# Altium integrated library Renesas Microprocessor SuperH.IntLib: 433 symbols (part 18 of 62)
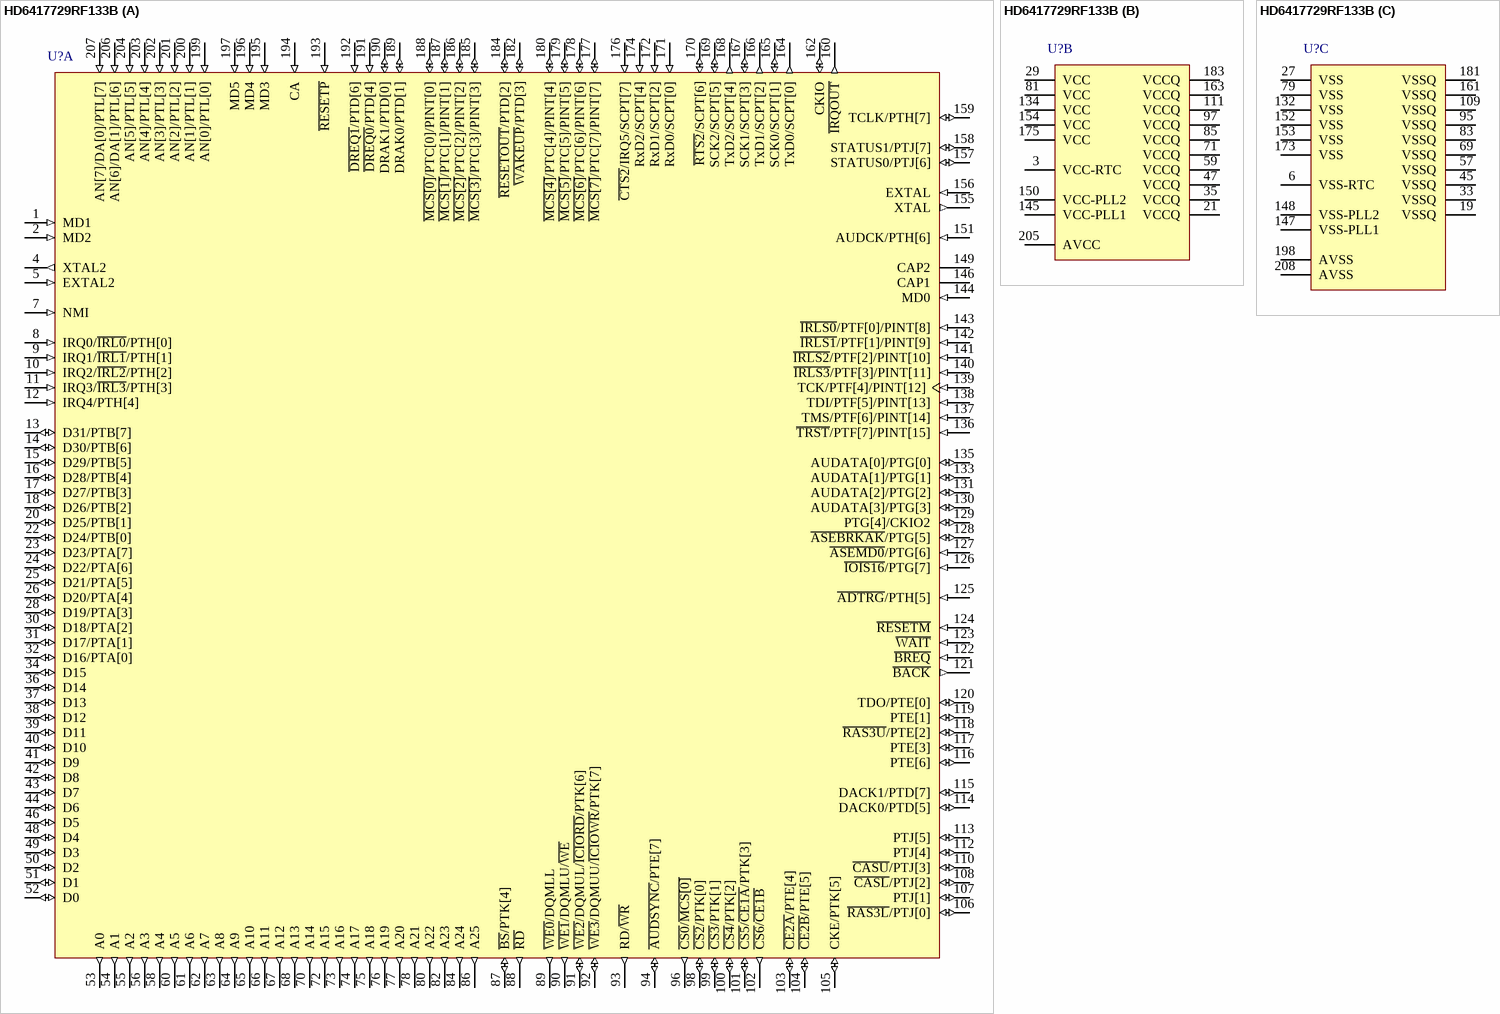
[diagram p292: symbol HD6417729RF133B]

## HD6417729RF133B
designator U?
32-Bit RISC Microcomputer, SH7700 Series, SH3-DSP core, 133MHz, 16K RAM, 208-pin LQFP, -20 to 75°C; Published: 28-Aug-2009; DatasheetVersion: Rev.5.00, Mar-2003; PackageVersion: Sep-2005; PackageReference: PLQP0208KA-A; Publisher: Altium Limited; PackageDescription: 208-Pin Plastic Low Profile QFP, 28 x 28 x 1.4 mm Body, 0.5 mm Pitch; Supplier 1: Digi-Key; Supplier Part Number 1: HD6417729RF133B-ND; Code_JEITA: P-LQFP208-28x28-0.50; ComponentLink1Description: Manufacturer Link; ComponentLink1URL: http://www.renesas.com/fmwk.jsp?cnt=sh7729r_root.jsp&fp=/products/mpumcu/superh_family/sh7700_series/sh7729r_group/; ComponentLink2Description: Datasheet; ComponentLink2URL: http://documentation.renesas.com/eng/products/mpumcu/rej09b0091_sh7729r.pdf; ComponentLink3Description: Packaging Specification; ComponentLink3URL: http://sg.renesas.com/media/products/common_info/package/pdf/ic/code/plqp0208ka_a.pdf
footprint PLQP0208KA-A_N (Shrink QFP, 208-Leads, Body 28x28mm, Pitch 0.5mm, IPC Medium Density)
footprint PLQP0208KA-A_L (Shrink QFP, 208-Leads, Body 28x28mm, Pitch 0.5mm, IPC High Density)
footprint PLQP0208KA-A_M (Shrink QFP, 208-Leads, Body 28x28mm, Pitch 0.5mm, IPC Low Density)
part A pins: 1 MD1 (in) "Clock mode setting", 2 MD2 (in) "Clock mode setting", 4 XTAL2 (out) "On-chip RTC crystal oscillator pin", 5 EXTAL2 (in) "On-chip RTC crystal oscillator pin", 7 NMI (in) "Nonmaskable interrupt request", 8 IRQ0/~{IRL0}/PTH[0] (in) "External interrupt request/input port H", 9 IRQ1/~{IRL1}/PTH[1] (in) "External interrupt request/input port H", 10 IRQ2/~{IRL2}/PTH[2] (in) "External interrupt request/input port H", 11 IRQ3/~{IRL3}/PTH[3] (in) "External interrupt request/input port H", 12 IRQ4/PTH[4] (in) "External interrupt request/input port H", 13 D31/PTB[7] (io) "Data bus/I/O port B", 14 D30/PTB[6] (io) "Data bus/I/O port B", 15 D29/PTB[5] (io) "Data bus/I/O port B", 16 D28/PTB[4] (io) "Data bus/I/O port B", 17 D27/PTB[3] (io) "Data bus/I/O port B", 18 D26/PTB[2] (io) "Data bus/I/O port B", 20 D25/PTB[1] (io) "Data bus/I/O port B", 22 D24/PTB[0] (io) "Data bus/I/O port B", 23 D23/PTA[7] (io) "Data bus/I/O port A", 24 D22/PTA[6] (io) "Data bus/I/O port A", 25 D21/PTA[5] (io) "Data bus/I/O port A", 26 D20/PTA[4] (io) "Data bus/I/O port A", 28 D19/PTA[3] (io) "Data bus/I/O port A", 30 D18/PTA[2] (io) "Data bus/I/O port A", 31 D17/PTA[1] (io) "Data bus/I/O port A", 32 D16/PTA[0] (io) "Data bus/I/O port A", 34 D15 (io) "Data bus", 36 D14 (io) "Data bus", 37 D13 (io) "Data bus", 38 D12 (io) "Data bus", 39 D11 (io) "Data bus", 40 D10 (io) "Data bus", 41 D9 (io) "Data bus", 42 D8 (io) "Data bus", 43 D7 (io) "Data bus", 44 D6 (io) "Data bus", 46 D5 (io) "Data bus", 48 D4 (io) "Data bus", 49 D3 (io) "Data bus", 50 D2 (io) "Data bus", 51 D1 (io) "Data bus", 52 D0 (io) "Data bus", 53 A0 (out) "Address bus", 54 A1 (out) "Address bus", 55 A2 (out) "Address bus", 56 A3 (out) "Address bus", 58 A4 (out) "Address bus", 60 A5 (out) "Address bus", 61 A6 (out) "Address bus", 62 A7 (out) "Address bus", 63 A8 (out) "Address bus", 64 A9 (out) "Address bus", 65 A10 (out) "Address bus", 66 A11 (out) "Address bus", 67 A12 (out) "Address bus", 68 A13 (out) "Address bus", 70 A14 (out) "Address bus", 72 A15 (out) "Address bus", 73 A16 (out) "Address bus", 74 A17 (out) "Address bus", 75 A18 (out) "Address bus", 76 A19 (out) "Address bus", 77 A20 (out) "Address bus", 78 A21 (out) "Address bus", 80 A22 (out) "Address bus", 82 A23 (out) "Address bus", 84 A24 (out) "Address bus", 86 A25 (out) "Address bus", 87 ~{BS}/PTK[4] (io) "Bus cycle start signal/I/O port K", 88 ~{RD} (out) "Read strobe", 89 ~{WE0}/DQMLL (out) "D7-D0 select signal/DQM (SDRAM)", 90 ~{WE1}/DQMLU/~{WE} (out) "D15-D8 select signal/DQM (SDRAM)", 91 ~{WE2}/DQMUL/~{ICIORD}/PTK[6] (io) "D23-D16 select signal/DQM (SDRAM)/PCMCIA I/O read/I/O port K", 92 ~{WE3}/DQMUU/~{ICIOWR}/PTK[7] (io) "D31-D24 select signal/DQM (SDRAM)/PCMCIA I/O write/I/O port K", 93 RD/~{WR} (out) "Read/write", 94 ~{AUDSYNC}/PTE[7] (io) "AUD synchronous/I/O port E", 96 ~{CS0}/~{MCS[0]} (out) "Chip select 0/mask ROM chip select 0", 98 ~{CS2}/PTK[0] (io) "Chip select 2/I/O port K", 99 ~{CS3}/PTK[1] (io) "Chip select 3/I/O port K", 100 ~{CS4}/PTK[2] (io) "Chip select 4/I/O port K", 101 ~{CS5}/~{CE1A}/PTK[3] (io) "Chip select 5/CE1 (area 5 PCMCIA)/I/O port K", 102 ~{CS6}/~{CE1B} (out) "Chip select 6/CE1 (area 6 PCMCIA)", 103 ~{CE2A}/PTE[4] (io) "CE2 (area5 PCMCIA)/I/O port E", 104 ~{CE2B}/PTE[5] (io) "CE2 (area6 PCMCIA)/I/O port E", 105 CKE/PTK[5] (io) "CK enable (SDRAM)/I/O port K", 106 ~{RAS3L}/PTJ[0] (io) "Lower 32/64 MB address (SDRAM) RAS/I/O port J", 107 PTJ[1] (io) "I/O port J", 108 ~{CASL}/PTJ[2] (io) "Lower 32/64 MB address (SDRAM) CAS/I/O port J", 110 ~{CASU}/PTJ[3] (io) "Upper 32 MB address (SDRAM) CAS/I/O port J", 112 PTJ[4] (io) "I/O port J", 113 PTJ[5] (io) "I/O port J", 114 DACK0/PTD[5] (io) "DMA acknowledge 0/I/O port D", 115 DACK1/PTD[7] (io) "DMA acknowledge 1/I/O port D", 116 PTE[6] (io) "I/O port E", 117 PTE[3] (io) "I/O port E", 118 ~{RAS3U}/PTE[2] (io) "Upper 32 MB address (SDRAM) RAS/I/O port E", 119 PTE[1] (io) "I/O port E", 120 TDO/PTE[0] (io) "Test data output/I/O port E", 121 ~{BACK} (out) "Bus acknowledge", 122 ~{BREQ} (in) "Bus request", 123 ~{WAIT} (in) "Hardware wait request", 124 ~{RESETM} (in) "Manual reset request", 125 ~{ADTRG}/PTH[5] (in) "Analog trigger/input port H", 126 ~{IOIS16}/PTG[7] (in) "IOIS6 (PCMCIA)/input port G", 127 ~{ASEMD0}/PTG[6] (in) "ASE mode/input port G", 128 ~{ASEBRKAK}/PTG[5] (io) "ASE break acknowledge/input port G", 129 PTG[4]/CKIO2 (io) "Input port G/clock output", 130 AUDATA[3]/PTG[3] (io) "AUD data/input port G", 131 AUDATA[2]/PTG[2] (io) "AUD data/input port G", 133 AUDATA[1]/PTG[1] (io) "AUD data/input port G", 135 AUDATA[0]/PTG[0] (io) "AUD data/input port G", 136 ~{TRST}/PTF[7]/PINT[15] (in) "Test reset/input port F/port interrupt", 137 TMS/PTF[6]/PINT[14] (in) "Test mode switch/input port F/port interrupt", 138 TDI/PTF[5]/PINT[13] (in) "Test data input/input port F/port interrupt", 139 TCK/PTF[4]/PINT[12] (in) "Test clock/input port F/port interrupt", 140 ~{IRLS3}/PTF[3]/PINT[11] (in) "External interrupt request/input port F/port interrupt", 141 ~{IRLS2}/PTF[2]/PINT[10] (in) "External interrupt request/input port F/port interrupt", 142 ~{IRLS1}/PTF[1]/PINT[9] (in) "External interrupt request/input port F/port interrupt", 143 ~{IRLS0}/PTF[0]/PINT[8] (in) "External interrupt request/input port F/port interrupt", 144 MD0 (in) "Clock mode setting", 146 CAP1 "PLL1 external capacitance pin", 149 CAP2 "PLL2 external capacitance pin", 151 AUDCK/PTH[6] (in) "AUD clock/input port H", 155 XTAL (out) "Clock oscillator pin", 156 EXTAL (in) "External clock/crystal oscillator pin", 157 STATUS0/PTJ[6] (io) "Processor status/I/O port J", 158 STATUS1/PTJ[7] (io) "Processor status/I/O port J", 159 TCLK/PTH[7] (io) "TMU or RTC clock input/output/I/O port H", 160 ~{IRQOUT} (out) "Interrupt request notification", 162 CKIO (io) "System clock input/output", 164 TxD0/SCPT[0] (out) "Transmit data 0/SCI output port", 165 SCK0/SCPT[1] (io) "Serial clock 0/SCI I/O port", 166 TxD1/SCPT[2] (out) "Transmit data 1/SCI output port", 167 SCK1/SCPT[3] (io) "Serial clock 1/SCI I/O port", 168 TxD2/SCPT[4] (out) "Transmit data 2/SCI output port", 169 SCK2/SCPT[5] (io) "Serial clock 2/SCI I/O port", 170 ~{RTS2}/SCPT[6] (io) "Transmit request 2/SCI I/O port", 171 RxD0/SCPT[0] (in) "Transmit data 0/SCI input port", 172 RxD1/SCPT[2] (in) "Transmit data 1/SCI input port", 174 RxD2/SCPT[4] (in) "Transmit data 2/SCI input port", 176 ~{CTS2}/IRQ5/SCPT[7] (in) "Transmit clear 2/external interrupt request/SCI input port", 177 ~{MCS[7]}/PTC[7]/PINT[7] (io) "Mask ROM chip select/I/O port C/port interrupt", 178 ~{MCS[6]}/PTC[6]/PINT[6] (io) "Mask ROM chip select/I/O port C/port interrupt", 179 ~{MCS[5]}/PTC[5]/PINT[5] (io) "Mask ROM chip select/I/O port C/port interrupt", 180 ~{MCS[4]}/PTC[4]/PINT[4] (io) "Mask ROM chip select/I/O port C/port interrupt", 182 ~{WAKEUP}/PTD[3] (io) "Standby mode interrupt request notification/I/O port D", 184 ~{RESETOUT}/PTD[2] (io) "Reset output/I/O port D", 185 ~{MCS[3]}/PTC[3]/PINT[3] (io) "Mask ROM chip select/I/O port C/port interrupt", 186 ~{MCS[2]}/PTC[2]/PINT[2] (io) "Mask ROM chip select/I/O port C/port interrupt", 187 ~{MCS[1]}/PTC[1]/PINT[1] (io) "Mask ROM chip select/I/O port C/port interrupt", 188 ~{MCS[0]}/PTC[0]/PINT[0] (io) "Mask ROM chip select/I/O port C/port interrupt", 189 DRAK0/PTD[1] (io) "DMA request acceptance/I/O port D", 190 DRAK1/PTD[0] (io) "DMA request acceptance/I/O port D", 191 ~{DREQ0}/PTD[4] (in) "DMA request/input port D", 192 ~{DREQ1}/PTD[6] (in) "DMA request/input port D", 193 ~{RESETP} (in) "Power-on reset request", 194 CA (in) "Chip activate (hardware standby request signal)", 195 MD3 (in) "Area 0 bus width setting", 196 MD4 (in) "Area 0 bus width setting", 197 MD5 (in) "Endian setting", 199 AN[0]/PTL[0] (in) "A/D converter input/input port L", 200 AN[1]/PTL[1] (in) "A/D converter input/input port L", 201 AN[2]/PTL[2] (in) "A/D converter input/input port L", 202 AN[3]/PTL[3] (in) "A/D converter input/input port L", 203 AN[4]/PTL[4] (in) "A/D converter input/input port L", 204 AN[5]/PTL[5] (in) "A/D converter input/input port L", 206 AN[6]/DA[1]/PTL[6] (in) "A/D converter input/input port L", 207 AN[7]/DA[0]/PTL[7] (in) "A/D converter input/input port L"
part B pins: 3 VCC-RTC (power) "RTC power supply V. Connect to power supply if not used.", 21 VCCQ (power) "Input/output power supply (3.3V)", 29 VCC (power) "Power supply", 35 VCCQ (power) "Input/output power supply (3.3V)", 47 VCCQ (power) "Input/output power supply (3.3V)", 59 VCCQ (power) "Input/output power supply (3.3V)", 71 VCCQ (power) "Input/output power supply (3.3V)", 81 VCC (power) "Power supply", 85 VCCQ (power) "Input/output power supply (3.3V)", 97 VCCQ (power) "Input/output power supply (3.3V)", 111 VCCQ (power) "Input/output power supply (3.3V)", 134 VCC (power) "Power supply", 145 VCC-PLL1 (power) "PLL1 power supply", 150 VCC-PLL2 (power) "PLL2 power supply", 154 VCC (power) "Power supply", 163 VCCQ (power) "Input/output power supply (3.3V)", 175 VCC (power) "Power supply", 183 VCCQ (power) "Input/output power supply (3.3V)", 205 AVCC (power) "Analog power supply (3.3V)"
part C pins: 6 VSS-RTC (power) "RTC power supply (0V). Connect to power supply if not used.", 19 VSSQ (power) "Input/output power supply (0V)", 27 VSS (power) "Power supply (0V)", 33 VSSQ (power) "Input/output power supply (0V)", 45 VSSQ (power) "Input/output power supply (0V)", 57 VSSQ (power) "Input/output power supply (0V)", 69 VSSQ (power) "Input/output power supply (0V)", 79 VSS (power) "Power supply (0V)", 83 VSSQ (power) "Input/output power supply (0V)", 95 VSSQ (power) "Input/output power supply (0V)", 109 VSSQ (power) "Input/output power supply (0V)", 132 VSS (power) "Power supply (0V)", 147 VSS-PLL1 (power) "PLL1 power supply (0V)", 148 VSS-PLL2 (power) "PLL2 power supply (0V)", 152 VSS (power) "Power supply (0V)", 153 VSS (power) "Power supply (0V)", 161 VSSQ (power) "Input/output power supply (0V)", 173 VSS (power) "Power supply (0V)", 181 VSSQ (power) "Input/output power supply (0V)", 198 AVSS (power) "Analog power supply (0V)", 208 AVSS (power) "Analog power supply (0V)"

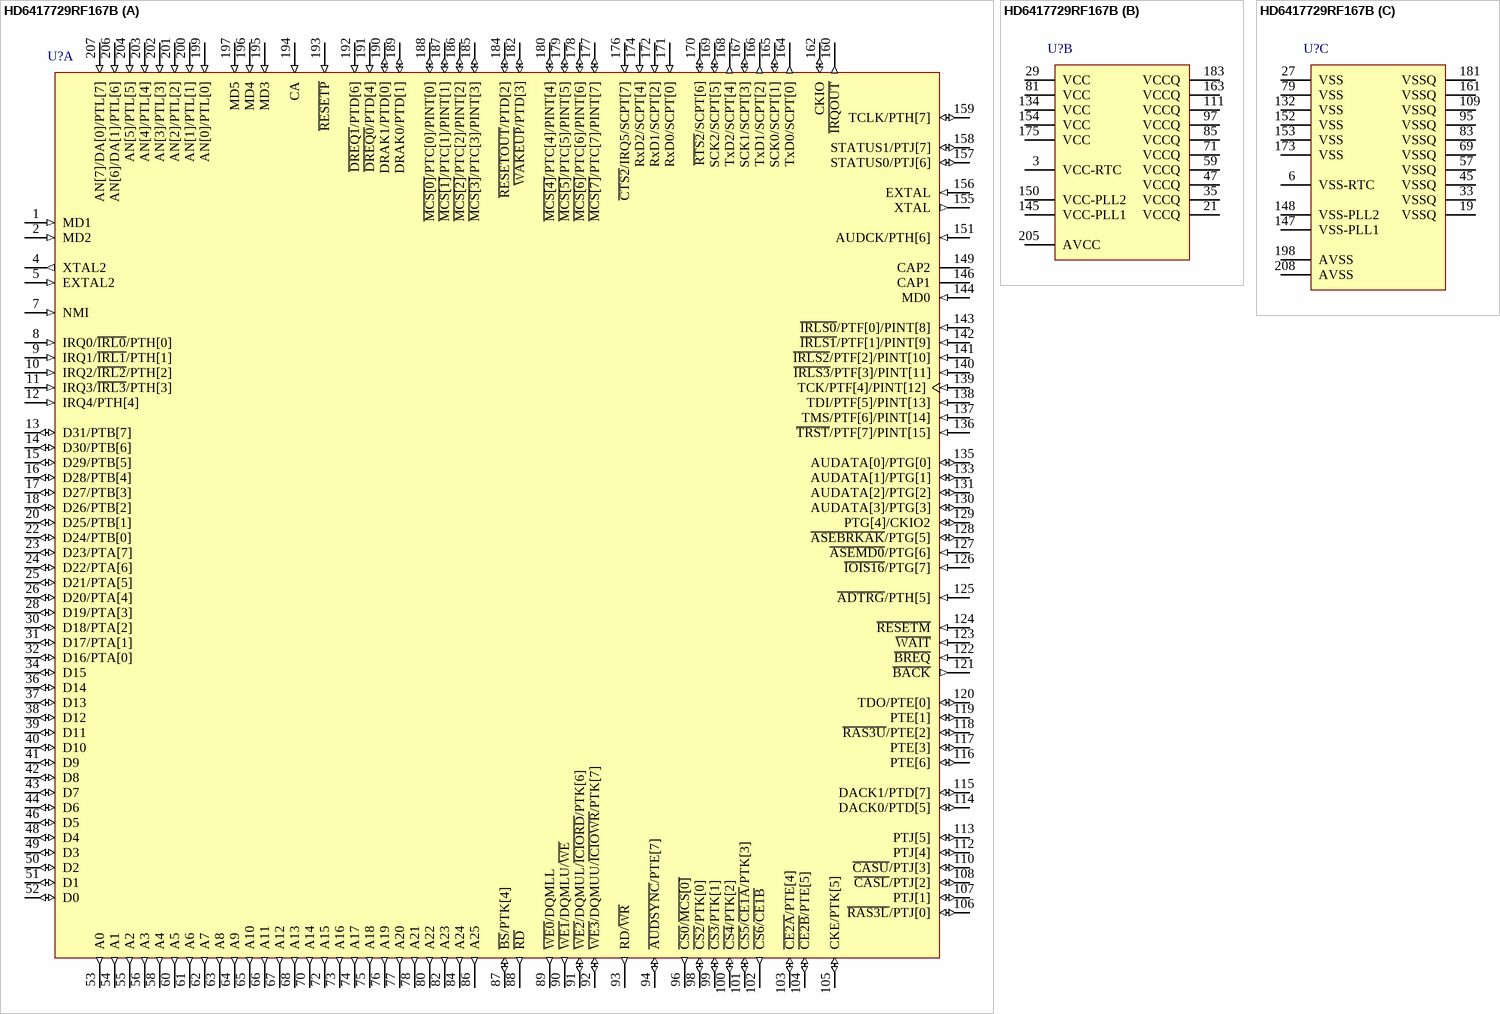
[diagram p62: symbol HD6417729RF167B]

## HD6417729RF167B
designator U?
32-Bit RISC Microcomputer, SH7700 Series, SH3-DSP core, 167MHz, 16K RAM, 208-pin LQFP, -20 to 75°C; Published: 28-Aug-2009; DatasheetVersion: Rev.5.00, Mar-2003; PackageVersion: Sep-2005; PackageReference: PLQP0208KA-A; Publisher: Altium Limited; PackageDescription: 208-Pin Plastic Low Profile QFP, 28 x 28 x 1.4 mm Body, 0.5 mm Pitch; Code_JEITA: P-LQFP208-28x28-0.50; ComponentLink1Description: Manufacturer Link; ComponentLink1URL: http://www.renesas.com/fmwk.jsp?cnt=sh7729r_root.jsp&fp=/products/mpumcu/superh_family/sh7700_series/sh7729r_group/; ComponentLink2Description: Datasheet; ComponentLink2URL: http://documentation.renesas.com/eng/products/mpumcu/rej09b0091_sh7729r.pdf; ComponentLink3Description: Packaging Specification; ComponentLink3URL: http://sg.renesas.com/media/products/common_info/package/pdf/ic/code/plqp0208ka_a.pdf
footprint PLQP0208KA-A_N (Shrink QFP, 208-Leads, Body 28x28mm, Pitch 0.5mm, IPC Medium Density)
footprint PLQP0208KA-A_L (Shrink QFP, 208-Leads, Body 28x28mm, Pitch 0.5mm, IPC High Density)
footprint PLQP0208KA-A_M (Shrink QFP, 208-Leads, Body 28x28mm, Pitch 0.5mm, IPC Low Density)
part A pins: 1 MD1 (in) "Clock mode setting", 2 MD2 (in) "Clock mode setting", 4 XTAL2 (out) "On-chip RTC crystal oscillator pin", 5 EXTAL2 (in) "On-chip RTC crystal oscillator pin", 7 NMI (in) "Nonmaskable interrupt request", 8 IRQ0/~{IRL0}/PTH[0] (in) "External interrupt request/input port H", 9 IRQ1/~{IRL1}/PTH[1] (in) "External interrupt request/input port H", 10 IRQ2/~{IRL2}/PTH[2] (in) "External interrupt request/input port H", 11 IRQ3/~{IRL3}/PTH[3] (in) "External interrupt request/input port H", 12 IRQ4/PTH[4] (in) "External interrupt request/input port H", 13 D31/PTB[7] (io) "Data bus/I/O port B", 14 D30/PTB[6] (io) "Data bus/I/O port B", 15 D29/PTB[5] (io) "Data bus/I/O port B", 16 D28/PTB[4] (io) "Data bus/I/O port B", 17 D27/PTB[3] (io) "Data bus/I/O port B", 18 D26/PTB[2] (io) "Data bus/I/O port B", 20 D25/PTB[1] (io) "Data bus/I/O port B", 22 D24/PTB[0] (io) "Data bus/I/O port B", 23 D23/PTA[7] (io) "Data bus/I/O port A", 24 D22/PTA[6] (io) "Data bus/I/O port A", 25 D21/PTA[5] (io) "Data bus/I/O port A", 26 D20/PTA[4] (io) "Data bus/I/O port A", 28 D19/PTA[3] (io) "Data bus/I/O port A", 30 D18/PTA[2] (io) "Data bus/I/O port A", 31 D17/PTA[1] (io) "Data bus/I/O port A", 32 D16/PTA[0] (io) "Data bus/I/O port A", 34 D15 (io) "Data bus", 36 D14 (io) "Data bus", 37 D13 (io) "Data bus", 38 D12 (io) "Data bus", 39 D11 (io) "Data bus", 40 D10 (io) "Data bus", 41 D9 (io) "Data bus", 42 D8 (io) "Data bus", 43 D7 (io) "Data bus", 44 D6 (io) "Data bus", 46 D5 (io) "Data bus", 48 D4 (io) "Data bus", 49 D3 (io) "Data bus", 50 D2 (io) "Data bus", 51 D1 (io) "Data bus", 52 D0 (io) "Data bus", 53 A0 (out) "Address bus", 54 A1 (out) "Address bus", 55 A2 (out) "Address bus", 56 A3 (out) "Address bus", 58 A4 (out) "Address bus", 60 A5 (out) "Address bus", 61 A6 (out) "Address bus", 62 A7 (out) "Address bus", 63 A8 (out) "Address bus", 64 A9 (out) "Address bus", 65 A10 (out) "Address bus", 66 A11 (out) "Address bus", 67 A12 (out) "Address bus", 68 A13 (out) "Address bus", 70 A14 (out) "Address bus", 72 A15 (out) "Address bus", 73 A16 (out) "Address bus", 74 A17 (out) "Address bus", 75 A18 (out) "Address bus", 76 A19 (out) "Address bus", 77 A20 (out) "Address bus", 78 A21 (out) "Address bus", 80 A22 (out) "Address bus", 82 A23 (out) "Address bus", 84 A24 (out) "Address bus", 86 A25 (out) "Address bus", 87 ~{BS}/PTK[4] (io) "Bus cycle start signal/I/O port K", 88 ~{RD} (out) "Read strobe", 89 ~{WE0}/DQMLL (out) "D7-D0 select signal/DQM (SDRAM)", 90 ~{WE1}/DQMLU/~{WE} (out) "D15-D8 select signal/DQM (SDRAM)", 91 ~{WE2}/DQMUL/~{ICIORD}/PTK[6] (io) "D23-D16 select signal/DQM (SDRAM)/PCMCIA I/O read/I/O port K", 92 ~{WE3}/DQMUU/~{ICIOWR}/PTK[7] (io) "D31-D24 select signal/DQM (SDRAM)/PCMCIA I/O write/I/O port K", 93 RD/~{WR} (out) "Read/write", 94 ~{AUDSYNC}/PTE[7] (io) "AUD synchronous/I/O port E", 96 ~{CS0}/~{MCS[0]} (out) "Chip select 0/mask ROM chip select 0", 98 ~{CS2}/PTK[0] (io) "Chip select 2/I/O port K", 99 ~{CS3}/PTK[1] (io) "Chip select 3/I/O port K", 100 ~{CS4}/PTK[2] (io) "Chip select 4/I/O port K", 101 ~{CS5}/~{CE1A}/PTK[3] (io) "Chip select 5/CE1 (area 5 PCMCIA)/I/O port K", 102 ~{CS6}/~{CE1B} (out) "Chip select 6/CE1 (area 6 PCMCIA)", 103 ~{CE2A}/PTE[4] (io) "CE2 (area5 PCMCIA)/I/O port E", 104 ~{CE2B}/PTE[5] (io) "CE2 (area6 PCMCIA)/I/O port E", 105 CKE/PTK[5] (io) "CK enable (SDRAM)/I/O port K", 106 ~{RAS3L}/PTJ[0] (io) "Lower 32/64 MB address (SDRAM) RAS/I/O port J", 107 PTJ[1] (io) "I/O port J", 108 ~{CASL}/PTJ[2] (io) "Lower 32/64 MB address (SDRAM) CAS/I/O port J", 110 ~{CASU}/PTJ[3] (io) "Upper 32 MB address (SDRAM) CAS/I/O port J", 112 PTJ[4] (io) "I/O port J", 113 PTJ[5] (io) "I/O port J", 114 DACK0/PTD[5] (io) "DMA acknowledge 0/I/O port D", 115 DACK1/PTD[7] (io) "DMA acknowledge 1/I/O port D", 116 PTE[6] (io) "I/O port E", 117 PTE[3] (io) "I/O port E", 118 ~{RAS3U}/PTE[2] (io) "Upper 32 MB address (SDRAM) RAS/I/O port E", 119 PTE[1] (io) "I/O port E", 120 TDO/PTE[0] (io) "Test data output/I/O port E", 121 ~{BACK} (out) "Bus acknowledge", 122 ~{BREQ} (in) "Bus request", 123 ~{WAIT} (in) "Hardware wait request", 124 ~{RESETM} (in) "Manual reset request", 125 ~{ADTRG}/PTH[5] (in) "Analog trigger/input port H", 126 ~{IOIS16}/PTG[7] (in) "IOIS6 (PCMCIA)/input port G", 127 ~{ASEMD0}/PTG[6] (in) "ASE mode/input port G", 128 ~{ASEBRKAK}/PTG[5] (io) "ASE break acknowledge/input port G", 129 PTG[4]/CKIO2 (io) "Input port G/clock output", 130 AUDATA[3]/PTG[3] (io) "AUD data/input port G", 131 AUDATA[2]/PTG[2] (io) "AUD data/input port G", 133 AUDATA[1]/PTG[1] (io) "AUD data/input port G", 135 AUDATA[0]/PTG[0] (io) "AUD data/input port G", 136 ~{TRST}/PTF[7]/PINT[15] (in) "Test reset/input port F/port interrupt", 137 TMS/PTF[6]/PINT[14] (in) "Test mode switch/input port F/port interrupt", 138 TDI/PTF[5]/PINT[13] (in) "Test data input/input port F/port interrupt", 139 TCK/PTF[4]/PINT[12] (in) "Test clock/input port F/port interrupt", 140 ~{IRLS3}/PTF[3]/PINT[11] (in) "External interrupt request/input port F/port interrupt", 141 ~{IRLS2}/PTF[2]/PINT[10] (in) "External interrupt request/input port F/port interrupt", 142 ~{IRLS1}/PTF[1]/PINT[9] (in) "External interrupt request/input port F/port interrupt", 143 ~{IRLS0}/PTF[0]/PINT[8] (in) "External interrupt request/input port F/port interrupt", 144 MD0 (in) "Clock mode setting", 146 CAP1 "PLL1 external capacitance pin", 149 CAP2 "PLL2 external capacitance pin", 151 AUDCK/PTH[6] (in) "AUD clock/input port H", 155 XTAL (out) "Clock oscillator pin", 156 EXTAL (in) "External clock/crystal oscillator pin", 157 STATUS0/PTJ[6] (io) "Processor status/I/O port J", 158 STATUS1/PTJ[7] (io) "Processor status/I/O port J", 159 TCLK/PTH[7] (io) "TMU or RTC clock input/output/I/O port H", 160 ~{IRQOUT} (out) "Interrupt request notification", 162 CKIO (io) "System clock input/output", 164 TxD0/SCPT[0] (out) "Transmit data 0/SCI output port", 165 SCK0/SCPT[1] (io) "Serial clock 0/SCI I/O port", 166 TxD1/SCPT[2] (out) "Transmit data 1/SCI output port", 167 SCK1/SCPT[3] (io) "Serial clock 1/SCI I/O port", 168 TxD2/SCPT[4] (out) "Transmit data 2/SCI output port", 169 SCK2/SCPT[5] (io) "Serial clock 2/SCI I/O port", 170 ~{RTS2}/SCPT[6] (io) "Transmit request 2/SCI I/O port", 171 RxD0/SCPT[0] (in) "Transmit data 0/SCI input port", 172 RxD1/SCPT[2] (in) "Transmit data 1/SCI input port", 174 RxD2/SCPT[4] (in) "Transmit data 2/SCI input port", 176 ~{CTS2}/IRQ5/SCPT[7] (in) "Transmit clear 2/external interrupt request/SCI input port", 177 ~{MCS[7]}/PTC[7]/PINT[7] (io) "Mask ROM chip select/I/O port C/port interrupt", 178 ~{MCS[6]}/PTC[6]/PINT[6] (io) "Mask ROM chip select/I/O port C/port interrupt", 179 ~{MCS[5]}/PTC[5]/PINT[5] (io) "Mask ROM chip select/I/O port C/port interrupt", 180 ~{MCS[4]}/PTC[4]/PINT[4] (io) "Mask ROM chip select/I/O port C/port interrupt", 182 ~{WAKEUP}/PTD[3] (io) "Standby mode interrupt request notification/I/O port D", 184 ~{RESETOUT}/PTD[2] (io) "Reset output/I/O port D", 185 ~{MCS[3]}/PTC[3]/PINT[3] (io) "Mask ROM chip select/I/O port C/port interrupt", 186 ~{MCS[2]}/PTC[2]/PINT[2] (io) "Mask ROM chip select/I/O port C/port interrupt", 187 ~{MCS[1]}/PTC[1]/PINT[1] (io) "Mask ROM chip select/I/O port C/port interrupt", 188 ~{MCS[0]}/PTC[0]/PINT[0] (io) "Mask ROM chip select/I/O port C/port interrupt", 189 DRAK0/PTD[1] (io) "DMA request acceptance/I/O port D", 190 DRAK1/PTD[0] (io) "DMA request acceptance/I/O port D", 191 ~{DREQ0}/PTD[4] (in) "DMA request/input port D", 192 ~{DREQ1}/PTD[6] (in) "DMA request/input port D", 193 ~{RESETP} (in) "Power-on reset request", 194 CA (in) "Chip activate (hardware standby request signal)", 195 MD3 (in) "Area 0 bus width setting", 196 MD4 (in) "Area 0 bus width setting", 197 MD5 (in) "Endian setting", 199 AN[0]/PTL[0] (in) "A/D converter input/input port L", 200 AN[1]/PTL[1] (in) "A/D converter input/input port L", 201 AN[2]/PTL[2] (in) "A/D converter input/input port L", 202 AN[3]/PTL[3] (in) "A/D converter input/input port L", 203 AN[4]/PTL[4] (in) "A/D converter input/input port L", 204 AN[5]/PTL[5] (in) "A/D converter input/input port L", 206 AN[6]/DA[1]/PTL[6] (in) "A/D converter input/input port L", 207 AN[7]/DA[0]/PTL[7] (in) "A/D converter input/input port L"
part B pins: 3 VCC-RTC (power) "RTC power supply V. Connect to power supply if not used.", 21 VCCQ (power) "Input/output power supply (3.3V)", 29 VCC (power) "Power supply", 35 VCCQ (power) "Input/output power supply (3.3V)", 47 VCCQ (power) "Input/output power supply (3.3V)", 59 VCCQ (power) "Input/output power supply (3.3V)", 71 VCCQ (power) "Input/output power supply (3.3V)", 81 VCC (power) "Power supply", 85 VCCQ (power) "Input/output power supply (3.3V)", 97 VCCQ (power) "Input/output power supply (3.3V)", 111 VCCQ (power) "Input/output power supply (3.3V)", 134 VCC (power) "Power supply", 145 VCC-PLL1 (power) "PLL1 power supply", 150 VCC-PLL2 (power) "PLL2 power supply", 154 VCC (power) "Power supply", 163 VCCQ (power) "Input/output power supply (3.3V)", 175 VCC (power) "Power supply", 183 VCCQ (power) "Input/output power supply (3.3V)", 205 AVCC (power) "Analog power supply (3.3V)"
part C pins: 6 VSS-RTC (power) "RTC power supply (0V). Connect to power supply if not used.", 19 VSSQ (power) "Input/output power supply (0V)", 27 VSS (power) "Power supply (0V)", 33 VSSQ (power) "Input/output power supply (0V)", 45 VSSQ (power) "Input/output power supply (0V)", 57 VSSQ (power) "Input/output power supply (0V)", 69 VSSQ (power) "Input/output power supply (0V)", 79 VSS (power) "Power supply (0V)", 83 VSSQ (power) "Input/output power supply (0V)", 95 VSSQ (power) "Input/output power supply (0V)", 109 VSSQ (power) "Input/output power supply (0V)", 132 VSS (power) "Power supply (0V)", 147 VSS-PLL1 (power) "PLL1 power supply (0V)", 148 VSS-PLL2 (power) "PLL2 power supply (0V)", 152 VSS (power) "Power supply (0V)", 153 VSS (power) "Power supply (0V)", 161 VSSQ (power) "Input/output power supply (0V)", 173 VSS (power) "Power supply (0V)", 181 VSSQ (power) "Input/output power supply (0V)", 198 AVSS (power) "Analog power supply (0V)", 208 AVSS (power) "Analog power supply (0V)"

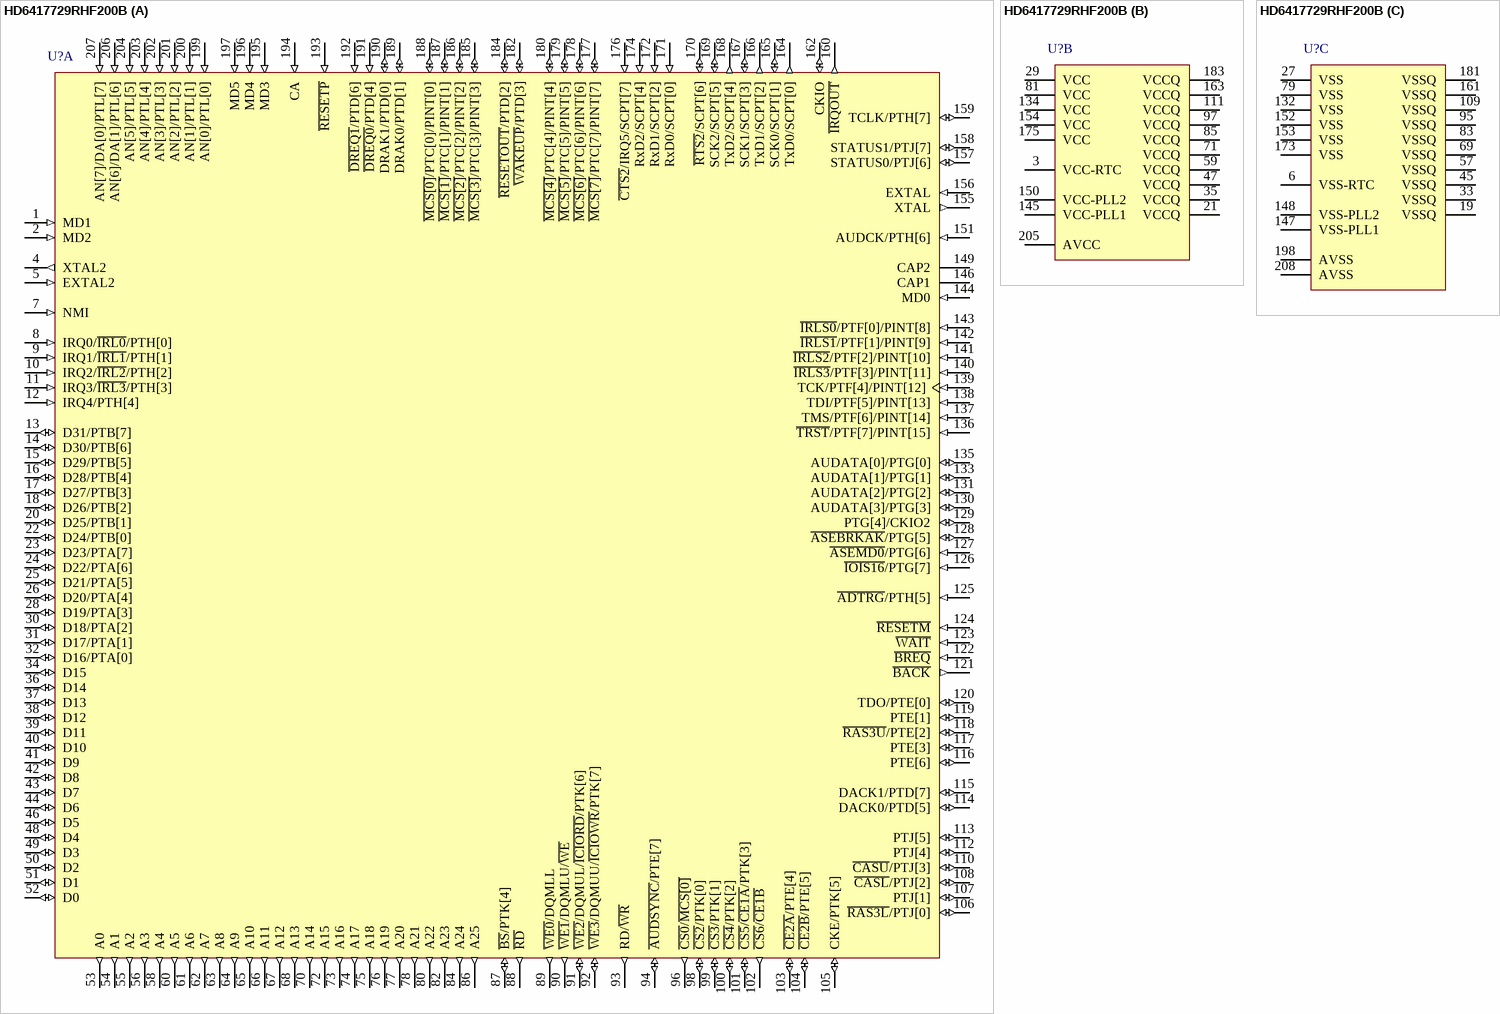
[diagram p63: symbol HD6417729RHF200B]

## HD6417729RHF200B
designator U?
32-Bit RISC Microcomputer, SH7700 Series, SH3-DSP core, 200MHz, 16K RAM, 208-pin HQFP, -20 to 75°C; Published: 28-Aug-2009; DatasheetVersion: Rev.5.00, Mar-2003; PackageVersion: Sep-2005; PackageReference: PRQP0208KE-B; Publisher: Altium Limited; PackageDescription: 208-Pin Plastic Quad Flat Pack, 28 x 28 x 3.2 mm Body, 0.5 mm Pitch; Supplier 1: Digi-Key; Supplier Part Number 1: HD6417729RHF200B-ND; Code_JEITA: P-HQFP208-28x28-0.50; ComponentLink1Description: Manufacturer Link; ComponentLink1URL: http://www.renesas.com/fmwk.jsp?cnt=sh7729r_root.jsp&fp=/products/mpumcu/superh_family/sh7700_series/sh7729r_group/; ComponentLink2Description: Datasheet; ComponentLink2URL: http://documentation.renesas.com/eng/products/mpumcu/rej09b0091_sh7729r.pdf; ComponentLink3Description: Packaging Specification; ComponentLink3URL: http://sg.renesas.com/media/products/common_info/package/pdf/ic/code/prqp0208ke_b.pdf
footprint PRQP0208KE-B_N (Shrink QFP, 208-Leads, Body 28x28mm, Pitch 0.5mm, IPC Medium Density)
footprint PRQP0208KE-B_L (Shrink QFP, 208-Leads, Body 28x28mm, Pitch 0.5mm, IPC High Density)
footprint PRQP0208KE-B_M (Shrink QFP, 208-Leads, Body 28x28mm, Pitch 0.5mm, IPC Low Density)
part A pins: 1 MD1 (in) "Clock mode setting", 2 MD2 (in) "Clock mode setting", 4 XTAL2 (out) "On-chip RTC crystal oscillator pin", 5 EXTAL2 (in) "On-chip RTC crystal oscillator pin", 7 NMI (in) "Nonmaskable interrupt request", 8 IRQ0/~{IRL0}/PTH[0] (in) "External interrupt request/input port H", 9 IRQ1/~{IRL1}/PTH[1] (in) "External interrupt request/input port H", 10 IRQ2/~{IRL2}/PTH[2] (in) "External interrupt request/input port H", 11 IRQ3/~{IRL3}/PTH[3] (in) "External interrupt request/input port H", 12 IRQ4/PTH[4] (in) "External interrupt request/input port H", 13 D31/PTB[7] (io) "Data bus/I/O port B", 14 D30/PTB[6] (io) "Data bus/I/O port B", 15 D29/PTB[5] (io) "Data bus/I/O port B", 16 D28/PTB[4] (io) "Data bus/I/O port B", 17 D27/PTB[3] (io) "Data bus/I/O port B", 18 D26/PTB[2] (io) "Data bus/I/O port B", 20 D25/PTB[1] (io) "Data bus/I/O port B", 22 D24/PTB[0] (io) "Data bus/I/O port B", 23 D23/PTA[7] (io) "Data bus/I/O port A", 24 D22/PTA[6] (io) "Data bus/I/O port A", 25 D21/PTA[5] (io) "Data bus/I/O port A", 26 D20/PTA[4] (io) "Data bus/I/O port A", 28 D19/PTA[3] (io) "Data bus/I/O port A", 30 D18/PTA[2] (io) "Data bus/I/O port A", 31 D17/PTA[1] (io) "Data bus/I/O port A", 32 D16/PTA[0] (io) "Data bus/I/O port A", 34 D15 (io) "Data bus", 36 D14 (io) "Data bus", 37 D13 (io) "Data bus", 38 D12 (io) "Data bus", 39 D11 (io) "Data bus", 40 D10 (io) "Data bus", 41 D9 (io) "Data bus", 42 D8 (io) "Data bus", 43 D7 (io) "Data bus", 44 D6 (io) "Data bus", 46 D5 (io) "Data bus", 48 D4 (io) "Data bus", 49 D3 (io) "Data bus", 50 D2 (io) "Data bus", 51 D1 (io) "Data bus", 52 D0 (io) "Data bus", 53 A0 (out) "Address bus", 54 A1 (out) "Address bus", 55 A2 (out) "Address bus", 56 A3 (out) "Address bus", 58 A4 (out) "Address bus", 60 A5 (out) "Address bus", 61 A6 (out) "Address bus", 62 A7 (out) "Address bus", 63 A8 (out) "Address bus", 64 A9 (out) "Address bus", 65 A10 (out) "Address bus", 66 A11 (out) "Address bus", 67 A12 (out) "Address bus", 68 A13 (out) "Address bus", 70 A14 (out) "Address bus", 72 A15 (out) "Address bus", 73 A16 (out) "Address bus", 74 A17 (out) "Address bus", 75 A18 (out) "Address bus", 76 A19 (out) "Address bus", 77 A20 (out) "Address bus", 78 A21 (out) "Address bus", 80 A22 (out) "Address bus", 82 A23 (out) "Address bus", 84 A24 (out) "Address bus", 86 A25 (out) "Address bus", 87 ~{BS}/PTK[4] (io) "Bus cycle start signal/I/O port K", 88 ~{RD} (out) "Read strobe", 89 ~{WE0}/DQMLL (out) "D7-D0 select signal/DQM (SDRAM)", 90 ~{WE1}/DQMLU/~{WE} (out) "D15-D8 select signal/DQM (SDRAM)", 91 ~{WE2}/DQMUL/~{ICIORD}/PTK[6] (io) "D23-D16 select signal/DQM (SDRAM)/PCMCIA I/O read/I/O port K", 92 ~{WE3}/DQMUU/~{ICIOWR}/PTK[7] (io) "D31-D24 select signal/DQM (SDRAM)/PCMCIA I/O write/I/O port K", 93 RD/~{WR} (out) "Read/write", 94 ~{AUDSYNC}/PTE[7] (io) "AUD synchronous/I/O port E", 96 ~{CS0}/~{MCS[0]} (out) "Chip select 0/mask ROM chip select 0", 98 ~{CS2}/PTK[0] (io) "Chip select 2/I/O port K", 99 ~{CS3}/PTK[1] (io) "Chip select 3/I/O port K", 100 ~{CS4}/PTK[2] (io) "Chip select 4/I/O port K", 101 ~{CS5}/~{CE1A}/PTK[3] (io) "Chip select 5/CE1 (area 5 PCMCIA)/I/O port K", 102 ~{CS6}/~{CE1B} (out) "Chip select 6/CE1 (area 6 PCMCIA)", 103 ~{CE2A}/PTE[4] (io) "CE2 (area5 PCMCIA)/I/O port E", 104 ~{CE2B}/PTE[5] (io) "CE2 (area6 PCMCIA)/I/O port E", 105 CKE/PTK[5] (io) "CK enable (SDRAM)/I/O port K", 106 ~{RAS3L}/PTJ[0] (io) "Lower 32/64 MB address (SDRAM) RAS/I/O port J", 107 PTJ[1] (io) "I/O port J", 108 ~{CASL}/PTJ[2] (io) "Lower 32/64 MB address (SDRAM) CAS/I/O port J", 110 ~{CASU}/PTJ[3] (io) "Upper 32 MB address (SDRAM) CAS/I/O port J", 112 PTJ[4] (io) "I/O port J", 113 PTJ[5] (io) "I/O port J", 114 DACK0/PTD[5] (io) "DMA acknowledge 0/I/O port D", 115 DACK1/PTD[7] (io) "DMA acknowledge 1/I/O port D", 116 PTE[6] (io) "I/O port E", 117 PTE[3] (io) "I/O port E", 118 ~{RAS3U}/PTE[2] (io) "Upper 32 MB address (SDRAM) RAS/I/O port E", 119 PTE[1] (io) "I/O port E", 120 TDO/PTE[0] (io) "Test data output/I/O port E", 121 ~{BACK} (out) "Bus acknowledge", 122 ~{BREQ} (in) "Bus request", 123 ~{WAIT} (in) "Hardware wait request", 124 ~{RESETM} (in) "Manual reset request", 125 ~{ADTRG}/PTH[5] (in) "Analog trigger/input port H", 126 ~{IOIS16}/PTG[7] (in) "IOIS6 (PCMCIA)/input port G", 127 ~{ASEMD0}/PTG[6] (in) "ASE mode/input port G", 128 ~{ASEBRKAK}/PTG[5] (io) "ASE break acknowledge/input port G", 129 PTG[4]/CKIO2 (io) "Input port G/clock output", 130 AUDATA[3]/PTG[3] (io) "AUD data/input port G", 131 AUDATA[2]/PTG[2] (io) "AUD data/input port G", 133 AUDATA[1]/PTG[1] (io) "AUD data/input port G", 135 AUDATA[0]/PTG[0] (io) "AUD data/input port G", 136 ~{TRST}/PTF[7]/PINT[15] (in) "Test reset/input port F/port interrupt", 137 TMS/PTF[6]/PINT[14] (in) "Test mode switch/input port F/port interrupt", 138 TDI/PTF[5]/PINT[13] (in) "Test data input/input port F/port interrupt", 139 TCK/PTF[4]/PINT[12] (in) "Test clock/input port F/port interrupt", 140 ~{IRLS3}/PTF[3]/PINT[11] (in) "External interrupt request/input port F/port interrupt", 141 ~{IRLS2}/PTF[2]/PINT[10] (in) "External interrupt request/input port F/port interrupt", 142 ~{IRLS1}/PTF[1]/PINT[9] (in) "External interrupt request/input port F/port interrupt", 143 ~{IRLS0}/PTF[0]/PINT[8] (in) "External interrupt request/input port F/port interrupt", 144 MD0 (in) "Clock mode setting", 146 CAP1 "PLL1 external capacitance pin", 149 CAP2 "PLL2 external capacitance pin", 151 AUDCK/PTH[6] (in) "AUD clock/input port H", 155 XTAL (out) "Clock oscillator pin", 156 EXTAL (in) "External clock/crystal oscillator pin", 157 STATUS0/PTJ[6] (io) "Processor status/I/O port J", 158 STATUS1/PTJ[7] (io) "Processor status/I/O port J", 159 TCLK/PTH[7] (io) "TMU or RTC clock input/output/I/O port H", 160 ~{IRQOUT} (out) "Interrupt request notification", 162 CKIO (io) "System clock input/output", 164 TxD0/SCPT[0] (out) "Transmit data 0/SCI output port", 165 SCK0/SCPT[1] (io) "Serial clock 0/SCI I/O port", 166 TxD1/SCPT[2] (out) "Transmit data 1/SCI output port", 167 SCK1/SCPT[3] (io) "Serial clock 1/SCI I/O port", 168 TxD2/SCPT[4] (out) "Transmit data 2/SCI output port", 169 SCK2/SCPT[5] (io) "Serial clock 2/SCI I/O port", 170 ~{RTS2}/SCPT[6] (io) "Transmit request 2/SCI I/O port", 171 RxD0/SCPT[0] (in) "Transmit data 0/SCI input port", 172 RxD1/SCPT[2] (in) "Transmit data 1/SCI input port", 174 RxD2/SCPT[4] (in) "Transmit data 2/SCI input port", 176 ~{CTS2}/IRQ5/SCPT[7] (in) "Transmit clear 2/external interrupt request/SCI input port", 177 ~{MCS[7]}/PTC[7]/PINT[7] (io) "Mask ROM chip select/I/O port C/port interrupt", 178 ~{MCS[6]}/PTC[6]/PINT[6] (io) "Mask ROM chip select/I/O port C/port interrupt", 179 ~{MCS[5]}/PTC[5]/PINT[5] (io) "Mask ROM chip select/I/O port C/port interrupt", 180 ~{MCS[4]}/PTC[4]/PINT[4] (io) "Mask ROM chip select/I/O port C/port interrupt", 182 ~{WAKEUP}/PTD[3] (io) "Standby mode interrupt request notification/I/O port D", 184 ~{RESETOUT}/PTD[2] (io) "Reset output/I/O port D", 185 ~{MCS[3]}/PTC[3]/PINT[3] (io) "Mask ROM chip select/I/O port C/port interrupt", 186 ~{MCS[2]}/PTC[2]/PINT[2] (io) "Mask ROM chip select/I/O port C/port interrupt", 187 ~{MCS[1]}/PTC[1]/PINT[1] (io) "Mask ROM chip select/I/O port C/port interrupt", 188 ~{MCS[0]}/PTC[0]/PINT[0] (io) "Mask ROM chip select/I/O port C/port interrupt", 189 DRAK0/PTD[1] (io) "DMA request acceptance/I/O port D", 190 DRAK1/PTD[0] (io) "DMA request acceptance/I/O port D", 191 ~{DREQ0}/PTD[4] (in) "DMA request/input port D", 192 ~{DREQ1}/PTD[6] (in) "DMA request/input port D", 193 ~{RESETP} (in) "Power-on reset request", 194 CA (in) "Chip activate (hardware standby request signal)", 195 MD3 (in) "Area 0 bus width setting", 196 MD4 (in) "Area 0 bus width setting", 197 MD5 (in) "Endian setting", 199 AN[0]/PTL[0] (in) "A/D converter input/input port L", 200 AN[1]/PTL[1] (in) "A/D converter input/input port L", 201 AN[2]/PTL[2] (in) "A/D converter input/input port L", 202 AN[3]/PTL[3] (in) "A/D converter input/input port L", 203 AN[4]/PTL[4] (in) "A/D converter input/input port L", 204 AN[5]/PTL[5] (in) "A/D converter input/input port L", 206 AN[6]/DA[1]/PTL[6] (in) "A/D converter input/input port L", 207 AN[7]/DA[0]/PTL[7] (in) "A/D converter input/input port L"
part B pins: 3 VCC-RTC (power) "RTC power supply V. Connect to power supply if not used.", 21 VCCQ (power) "Input/output power supply (3.3V)", 29 VCC (power) "Power supply", 35 VCCQ (power) "Input/output power supply (3.3V)", 47 VCCQ (power) "Input/output power supply (3.3V)", 59 VCCQ (power) "Input/output power supply (3.3V)", 71 VCCQ (power) "Input/output power supply (3.3V)", 81 VCC (power) "Power supply", 85 VCCQ (power) "Input/output power supply (3.3V)", 97 VCCQ (power) "Input/output power supply (3.3V)", 111 VCCQ (power) "Input/output power supply (3.3V)", 134 VCC (power) "Power supply", 145 VCC-PLL1 (power) "PLL1 power supply", 150 VCC-PLL2 (power) "PLL2 power supply", 154 VCC (power) "Power supply", 163 VCCQ (power) "Input/output power supply (3.3V)", 175 VCC (power) "Power supply", 183 VCCQ (power) "Input/output power supply (3.3V)", 205 AVCC (power) "Analog power supply (3.3V)"
part C pins: 6 VSS-RTC (power) "RTC power supply (0V). Connect to power supply if not used.", 19 VSSQ (power) "Input/output power supply (0V)", 27 VSS (power) "Power supply (0V)", 33 VSSQ (power) "Input/output power supply (0V)", 45 VSSQ (power) "Input/output power supply (0V)", 57 VSSQ (power) "Input/output power supply (0V)", 69 VSSQ (power) "Input/output power supply (0V)", 79 VSS (power) "Power supply (0V)", 83 VSSQ (power) "Input/output power supply (0V)", 95 VSSQ (power) "Input/output power supply (0V)", 109 VSSQ (power) "Input/output power supply (0V)", 132 VSS (power) "Power supply (0V)", 147 VSS-PLL1 (power) "PLL1 power supply (0V)", 148 VSS-PLL2 (power) "PLL2 power supply (0V)", 152 VSS (power) "Power supply (0V)", 153 VSS (power) "Power supply (0V)", 161 VSSQ (power) "Input/output power supply (0V)", 173 VSS (power) "Power supply (0V)", 181 VSSQ (power) "Input/output power supply (0V)", 198 AVSS (power) "Analog power supply (0V)", 208 AVSS (power) "Analog power supply (0V)"

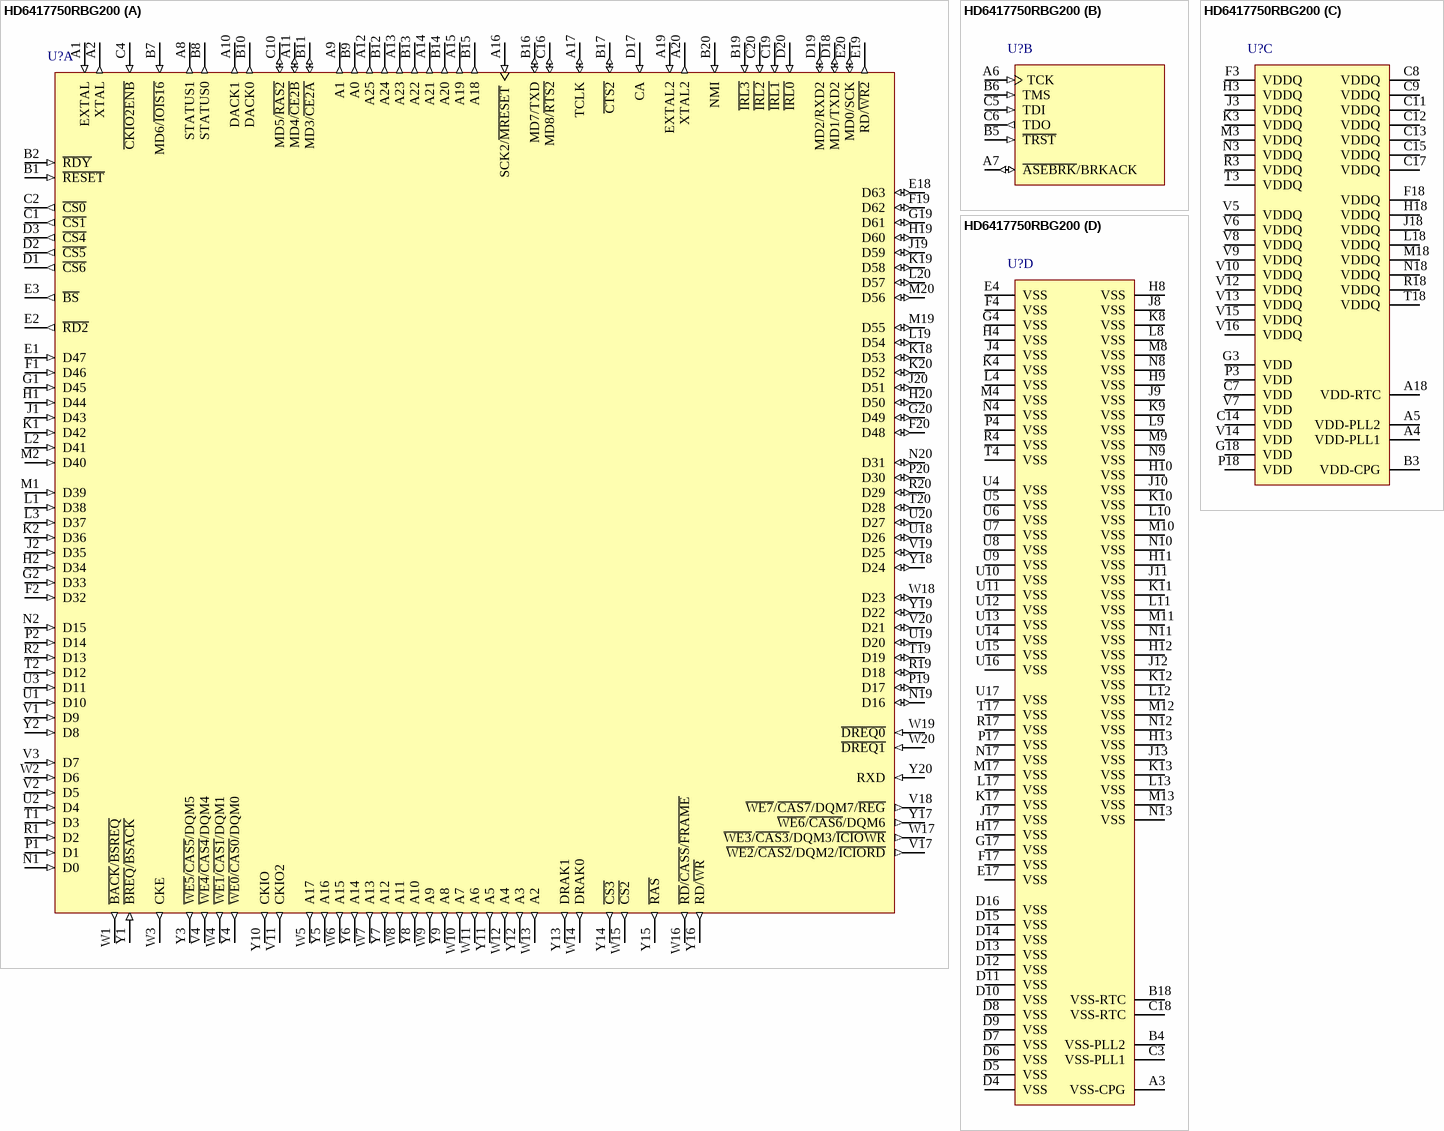
[diagram p64: symbol HD6417750RBG200]

## HD6417750RBG200
designator U?
32-Bit RISC Microcomputer, SH7750 Series, SH-4 core, 1.5V 200MHz, 292-pin BGA, -20 to 75°C; Published: 28-Aug-2009; DatasheetVersion: Rev.7.00, Oct-2008; PackageVersion: Oct-2006; PackageReference: PRBG0292GA-A; Publisher: Altium Limited; PackageDescription: 292-Ball Plastic Fine Pitch Ball Grid Array, 17 x 17 mm Body, 0.8 mm Pitch; Code_JEITA: P-FBGA292-17x17-0.80; ComponentLink1Description: Manufacturer Link; ComponentLink1URL: http://www.renesas.com/fmwk.jsp?cnt=sh7750r_root.jsp&fp=/products/mpumcu/superh_family/sh7750_series/sh7750r_group/; ComponentLink2Description: Datasheet; ComponentLink2URL: http://documentation.renesas.com/eng/products/mpumcu/rej09b0366_7750hm.pdf; ComponentLink3Description: Packaging Specification; ComponentLink3URL: http://sg.renesas.com/media/products/common_info/package/pdf/ic/code/prbg0292ga_a.pdf
footprint PRBG0292GA-A (BGA, 292-Leads, Body 17x17mm, Pitch 0.8mm)
part A pins: A1 EXTAL (in) "External clock/crystal resonator", A2 XTAL (out) "Crystal resonator", A8 STATUS1 (out) "Status", A9 A1 (out) "Address", A10 DACK1 (out) "DMAC1 acknowledge", A11 MD4/~{CE2B} (io) "Mode/PCMCIA-CE", A12 A25 (out) "Address", A13 A23 (out) "Address", A14 A21 (out) "Address", A15 A19 (out) "Address", A16 SCK2/~{MRESET} (in) "SCIF clock/manual reset", A17 TCLK (io) "RTC/TMU clock", A19 EXTAL2 (in) "RTC crystal resonator pin", A20 XTAL2 (out) "RTC crystal resonator pin", B1 ~{RESET} (in) "Reset", B2 ~{RDY} (in) "Bus ready", B7 MD6/~{IOIS16} (in) "Mode/IOIS16 (PCMCIA)", B8 STATUS0 (out) "Status", B9 A0 (out) "Address", B10 DACK0 (out) "DMAC0 bus acknowledge", B11 MD3/~{CE2A} (io) "Mode/PCMCIA-CE", B12 A24 (out) "Address", B13 A22 (out) "Address", B14 A20 (out) "Address", B15 A18 (out) "Address", B16 MD7/TXD (io) "Mode/SCI1 data output", B17 ~{CTS2} (io) "SCIF data control (CTS)", B19 ~{IRL3} (in) "Interrupt 3", B20 NMI (in) "Nonmaskable interrupt", C1 ~{CS1} (out) "Chip select 1", C2 ~{CS0} (out) "Chip select 0", C4 ~{CKIO2ENB} (in) "CKIO2, RD2, RD/WR2enable", C10 MD5/~{RAS2} (io) "Mode/RAS (DRAM)", C16 MD8/~{RTS2} (io) "Mode/SCIF data control (RTS)", C19 ~{IRL1} (in) "Interrupt 1", C20 ~{IRL2} (in) "Interrupt 2", D1 ~{CS6} (out) "Chip select 6", D2 ~{CS5} (out) "Chip select 5", D3 ~{CS4} (out) "Chip select 4", D17 CA (in) "Hardware standby", D18 MD1/TXD2 (io) "Mode/SCIF data output", D19 MD2/RXD2 (io) "Mode/SCIF data input", D20 ~{IRL0} (in) "Interrupt 0", E1 D47 (in) "Data/port", E2 ~{RD2} (out) "RD/CASS/FRAME", E3 ~{BS} (out) "Bus start", E18 D63 (io) "Data", E19 RD/~{WR2} (out) "RD/WR", E20 MD0/SCK (io) "Mode/SCI Clock", F1 D46 (in) "Data/port", F2 D32 (in) "Data/port", F19 D62 (io) "Data", F20 D48 (io) "Data/port", G1 D45 (in) "Data/port", G2 D33 (in) "Data/port", G19 D61 (io) "Data", G20 D49 (io) "Data/port", H1 D44 (in) "Data/port", H2 D34 (in) "Data/port", H19 D60 (io) "Data", H20 D50 (io) "Data/port", J1 D43 (in) "Data/port", J2 D35 (in) "Data/port", J19 D59 (io) "Data", J20 D51 (io) "Data/port", K1 D42 (in) "Data/port", K2 D36 (in) "Data/port", K18 D53 (io) "Data", K19 D58 (io) "Data", K20 D52 (io) "Data", L1 D38 (in) "Data/port", L2 D41 (in) "Data/port", L3 D37 (in) "Data/port", L19 D54 (io) "Data", L20 D57 (io) "Data", M1 D39 (in) "Data/port", M2 D40 (in) "Data/port", M19 D55 (io) "Data", M20 D56 (io) "Data", N1 D0 (in) "Data", N2 D15 (in) "Data", N19 D16 (io) "Data", N20 D31 (io) "Data", P1 D1 (in) "Data", P2 D14 (in) "Data", P19 D17 (io) "Data", P20 D30 (io) "Data", R1 D2 (in) "Data", R2 D13 (in) "Data", R19 D18 (io) "Data", R20 D29 (io) "Data", T1 D3 (in) "Data", T2 D12 (in) "Data", T19 D19 (io) "Data", T20 D28 (io) "Data", U1 D10 (in) "Data", U2 D4 (in) "Data", U3 D11 (in) "Data", U18 D26 (io) "Data", U19 D20 (io) "Data", U20 D27 (io) "Data", V1 D9 (in) "Data", V2 D5 (in) "Data", V3 D7 (in) "Data", V4 ~{WE4}/~{CAS4}/DQM4 (out) "D39-D32 select signal", V11 CKIO2 (out) "CKIO", V17 ~{WE2}/~{CAS2}/DQM2/~{ICIORD} (out) "D23-D16 select signal", V18 ~{WE7}/~{CAS7}/DQM7/~{REG} (out) "D63-D56 select signal", V19 D25 (io) "Data", V20 D21 (io) "Data", W1 ~{BACK}/~{BSREQ} (out) "Bus acknowledge/bus request", W2 D6 (in) "Data", W3 CKE (out) "Clock output enable", W4 ~{WE1}/~{CAS1}/DQM1 (out) "D15-D8 select signal", W5 A17 (out) "Address", W6 A15 (out) "Address", W7 A13 (out) "Address", W8 A11 (out) "Address", W9 A9 (out) "Address", W10 A7 (out) "Address", W11 A6 (out) "Address", W12 A4 (out) "Address", W13 A2 (out) "Address", W14 DRAK0 (out) "DMAC0 request acknowledge", W15 ~{CS2} (out) "Chip select 2", W16 ~{RD}/~{CASS}/~{FRAME} (out) "Read/CAS/FRAME", W17 ~{WE3}/~{CAS3}/DQM3/~{ICIOWR} (out) "D31-D24 select signal", W18 D23 (io) "Data", W19 ~{DREQ0} (in) "Request from DMAC0", W20 ~{DREQ1} (in) "Request from DMAC1", Y1 ~{BREQ}/~{BSACK} (in) "Bus request/bus acknowledge", Y2 D8 (in) "Data", Y3 ~{WE5}/~{CAS5}/DQM5 (out) "D47-D40 select signal", Y4 ~{WE0}/~{CAS0}/DQM0 (out) "D7-D0 select signal", Y5 A16 (out) "Address", Y6 A14 (out) "Address", Y7 A12 (out) "Address", Y8 A10 (out) "Address", Y9 A8 (out) "Address", Y10 CKIO (out) "Clock output", Y11 A5 (out) "Address", Y12 A3 (out) "Address", Y13 DRAK1 (out) "DMAC1 request acknowledge", Y14 ~{CS3} (out) "Chip select 3", Y15 ~{RAS} (out) "RAS", Y16 RD/~{WR} (out) "Read/write", Y17 ~{WE6}/~{CAS6}/DQM6 (out) "D55-D48 select signal", Y18 D24 (io) "Data", Y19 D22 (io) "Data", Y20 RXD (in) "SCI data input"
part B pins: A6 TCK (in) "Clock (H-UDI)", A7 ~{ASEBRK}/BRKACK (io) "Pin break/acknowledge (H-UDI)", B5 ~{TRST} (in) "Reset (H-UDI)", B6 TMS (in) "Mode (H-UDI)", C5 TDI (in) "Data in (H-UDI)", C6 TDO (out) "Data out (H-UDI)"
part C pins: A4 VDD-PLL1 (power) "PLL1 VDD (3.3V)", A5 VDD-PLL2 (power) "PLL2 VDD (3.3V)", A18 VDD-RTC (power) "RTC VDD (3.3V)", B3 VDD-CPG (power) "CPG VDD (3.3V)", C7 VDD (power) "Internal VDD", C8 VDDQ (power) "IO VDD (3.3V)", C9 VDDQ (power) "IO VDD (3.3V)", C11 VDDQ (power) "IO VDD (3.3V)", C12 VDDQ (power) "IO VDD (3.3V)", C13 VDDQ (power) "IO VDD (3.3V)", C14 VDD (power) "Internal VDD", C15 VDDQ (power) "IO VDD (3.3V)", C17 VDDQ (power) "IO VDD (3.3V)", F3 VDDQ (power) "IO VDD (3.3V)", F18 VDDQ (power) "IO VDD (3.3V)", G3 VDD (power) "Internal VDD", G18 VDD (power) "Internal VDD", H3 VDDQ (power) "IO VDD (3.3V)", H18 VDDQ (power) "IO VDD (3.3V)", J3 VDDQ (power) "IO VDD (3.3V)", J18 VDDQ (power) "IO VDD (3.3V)", K3 VDDQ (power) "IO VDD (3.3V)", L18 VDDQ (power) "IO VDD (3.3V)", M3 VDDQ (power) "IO VDD (3.3V)", M18 VDDQ (power) "IO VDD (3.3V)", N3 VDDQ (power) "IO VDD (3.3V)", N18 VDDQ (power) "IO VDD (3.3V)", P3 VDD (power) "Internal VDD", P18 VDD (power) "Internal VDD", R3 VDDQ (power) "IO VDD (3.3V)", R18 VDDQ (power) "IO VDD (3.3V)", T3 VDDQ (power) "IO VDD (3.3V)", T18 VDDQ (power) "IO VDD (3.3V)", V5 VDDQ (power) "IO VDD (3.3V)", V6 VDDQ (power) "IO VDD (3.3V)", V7 VDD (power) "Internal VDD", V8 VDDQ (power) "IO VDD (3.3V)", V9 VDDQ (power) "IO VDD (3.3V)", V10 VDDQ (power) "IO VDD (3.3V)", V12 VDDQ (power) "IO VDD (3.3V)", V13 VDDQ (power) "IO VDD (3.3V)", V14 VDD (power) "Internal VDD", V15 VDDQ (power) "IO VDD (3.3V)", V16 VDDQ (power) "IO VDD (3.3V)"
part D pins: A3 VSS-CPG (power) "CPG GND (0V)", B4 VSS-PLL2 (power) "PLL2 GND (0V)", B18 VSS-RTC (power) "RTC GND (0V)", C3 VSS-PLL1 (power) "PLL1 GND (0V)", C18 VSS-RTC (power) "RTC GND (0V)", D4 VSS (power) "GND (0V)", D5 VSS (power) "GND (0V)", D6 VSS (power) "GND (0V)", D7 VSS (power) "GND (0V)", D8 VSS (power) "GND (0V)", D9 VSS (power) "GND (0V)", D10 VSS (power) "GND (0V)", D11 VSS (power) "GND (0V)", D12 VSS (power) "GND (0V)", D13 VSS (power) "GND (0V)", D14 VSS (power) "GND (0V)", D15 VSS (power) "GND (0V)", D16 VSS (power) "GND (0V)", E4 VSS (power) "GND (0V)", E17 VSS (power) "GND (0V)", F4 VSS (power) "GND (0V)", F17 VSS (power) "GND (0V)", G4 VSS (power) "GND (0V)", G17 VSS (power) "GND (0V)", H4 VSS (power) "GND (0V)", H8 VSS (power) "GND (0V)", H9 VSS (power) "GND (0V)", H10 VSS (power) "GND (0V)", H11 VSS (power) "GND (0V)", H12 VSS (power) "GND (0V)", H13 VSS (power) "GND (0V)", H17 VSS (power) "GND (0V)", J4 VSS (power) "GND (0V)", J8 VSS (power) "GND (0V)", J9 VSS (power) "GND (0V)", J10 VSS (power) "GND (0V)", J11 VSS (power) "GND (0V)", J12 VSS (power) "GND (0V)", J13 VSS (power) "GND (0V)", J17 VSS (power) "GND (0V)", K4 VSS (power) "GND (0V)", K8 VSS (power) "GND (0V)", K9 VSS (power) "GND (0V)", K10 VSS (power) "GND (0V)", K11 VSS (power) "GND (0V)", K12 VSS (power) "GND (0V)", K13 VSS (power) "GND (0V)", K17 VSS (power) "GND (0V)", L4 VSS (power) "GND (0V)", L8 VSS (power) "GND (0V)", L9 VSS (power) "GND (0V)", L10 VSS (power) "GND (0V)", L11 VSS (power) "GND (0V)", L12 VSS (power) "GND (0V)", L13 VSS (power) "GND (0V)", L17 VSS (power) "GND (0V)", M4 VSS (power) "GND (0V)", M8 VSS (power) "GND (0V)", M9 VSS (power) "GND (0V)", M10 VSS (power) "GND (0V)", M11 VSS (power) "GND (0V)", M12 VSS (power) "GND (0V)", M13 VSS (power) "GND (0V)", M17 VSS (power) "GND (0V)", N4 VSS (power) "GND (0V)", N8 VSS (power) "GND (0V)", N9 VSS (power) "GND (0V)", N10 VSS (power) "GND (0V)", N11 VSS (power) "GND (0V)", N12 VSS (power) "GND (0V)", N13 VSS (power) "GND (0V)", N17 VSS (power) "GND (0V)", P4 VSS (power) "GND (0V)", P17 VSS (power) "GND (0V)", R4 VSS (power) "GND (0V)", R17 VSS (power) "GND (0V)", T4 VSS (power) "GND (0V)", T17 VSS (power) "GND (0V)", U4 VSS (power) "GND (0V)", U5 VSS (power) "GND (0V)", U6 VSS (power) "GND (0V)", U7 VSS (power) "GND (0V)", U8 VSS (power) "GND (0V)", U9 VSS (power) "GND (0V)", U10 VSS (power) "GND (0V)", U11 VSS (power) "GND (0V)", U12 VSS (power) "GND (0V)", U13 VSS (power) "GND (0V)", U14 VSS (power) "GND (0V)", U15 VSS (power) "GND (0V)", U16 VSS (power) "GND (0V)", U17 VSS (power) "GND (0V)"

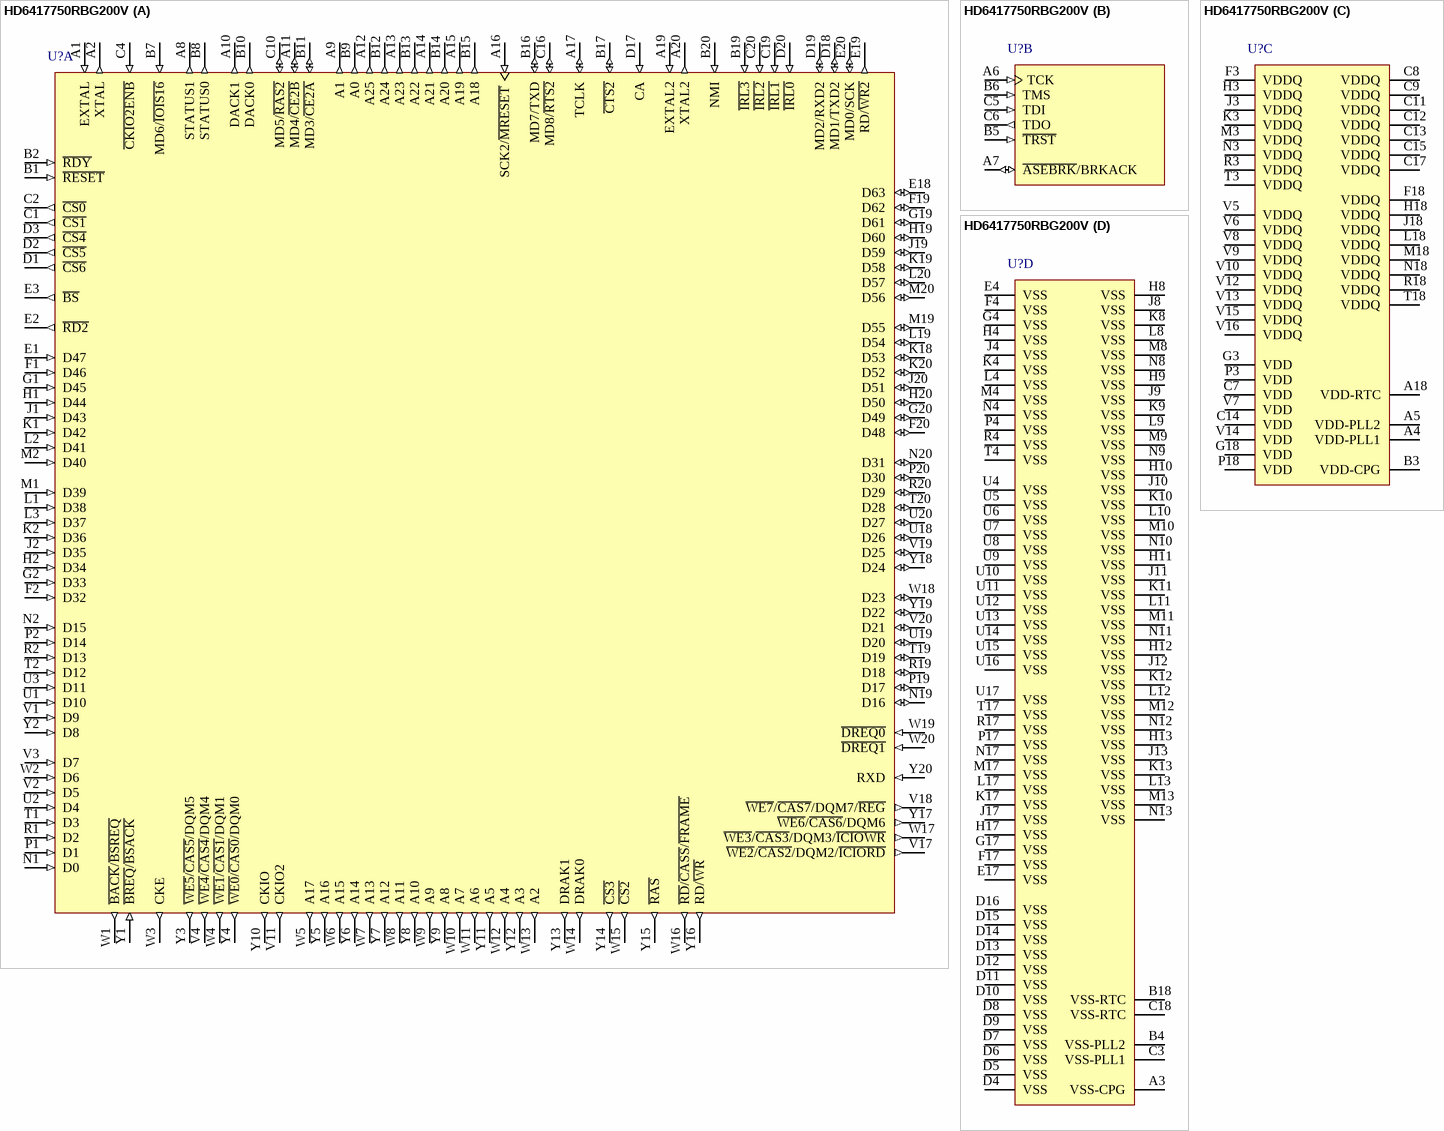
[diagram p65: symbol HD6417750RBG200V]